# Altium schematic symbol library 74438324010.SchLib: 1 symbol
Pins are listed as number, name and electrical type; pins without a type are passive.

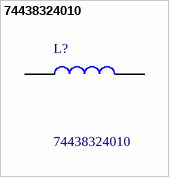
[diagram p0: symbol 74438324010]

## 74438324010
designator L?
WE-MAPI SMD Shielded Power Inductor, 2512, 1uH; Manufacturer_Name: Wurth Elektronik; Geometry.Height: 1.2mm; Mouser Part Number: 710-74438324010; Mouser Price/Stock: https://www.mouser.com/Search/Refine.aspx?Keyword=710-74438324010; Manufacturer_Part_Number: 74438324010; Datasheet Link: https://componentsearchengine.com/Datasheets/1/74438324010.pdf
footprint 74438324010
pins: 1, 2